# EAGLE library part CAT4109 (library wheat)
RGB LED driver
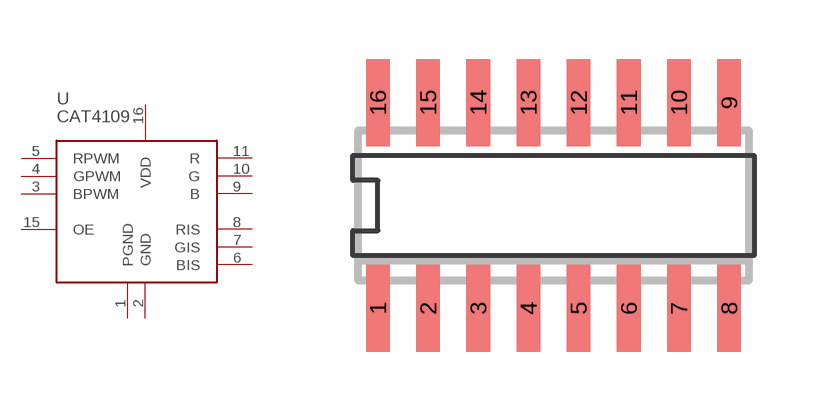
[diagram p101: symbol with the pads of SO16; footprint SO16]

Designator prefix U

## CAT4109V  [SO16]
1  PGND  pas
2  GND  pas
3  BPWM  in
4  GPWM  in
5  RPWM  in
6  BIS  pas
7  GIS  pas
8  RIS  pas
9  B  out
10  G  out
11  R  out
15  OE  in
16  VDD  pas

## Footprint SO16 (pad centres in mm)
SO16, NARROW
smd 0.6 x 2.2: 1 -3.81,-2.6; 2 -2.54,-2.6; 3 -1.27,-2.6; 4 0,-2.6; 5 1.27,-2.6; 6 2.54,-2.6; 7 3.81,-2.6; 8 5.08,-2.6; 9 5.08,2.6; 10 3.81,2.6; 11 2.54,2.6; 12 1.27,2.6; 13 0,2.6; 14 -1.27,2.6; 15 -2.54,2.6; 16 -3.81,2.6